# Altium footprint library ICs.PcbLib: 56 footprints (part 3 of 4)
Each footprint in its own frame and in the unit in brackets; x right, y up, seen from the top. Pads: shape width x height; smd on the part's side, far side on the other; paste and mask are expansions set on the pad; w line width, h text height; cw(c..) or ccw(c..) is an arc to the next point about the centre after c.
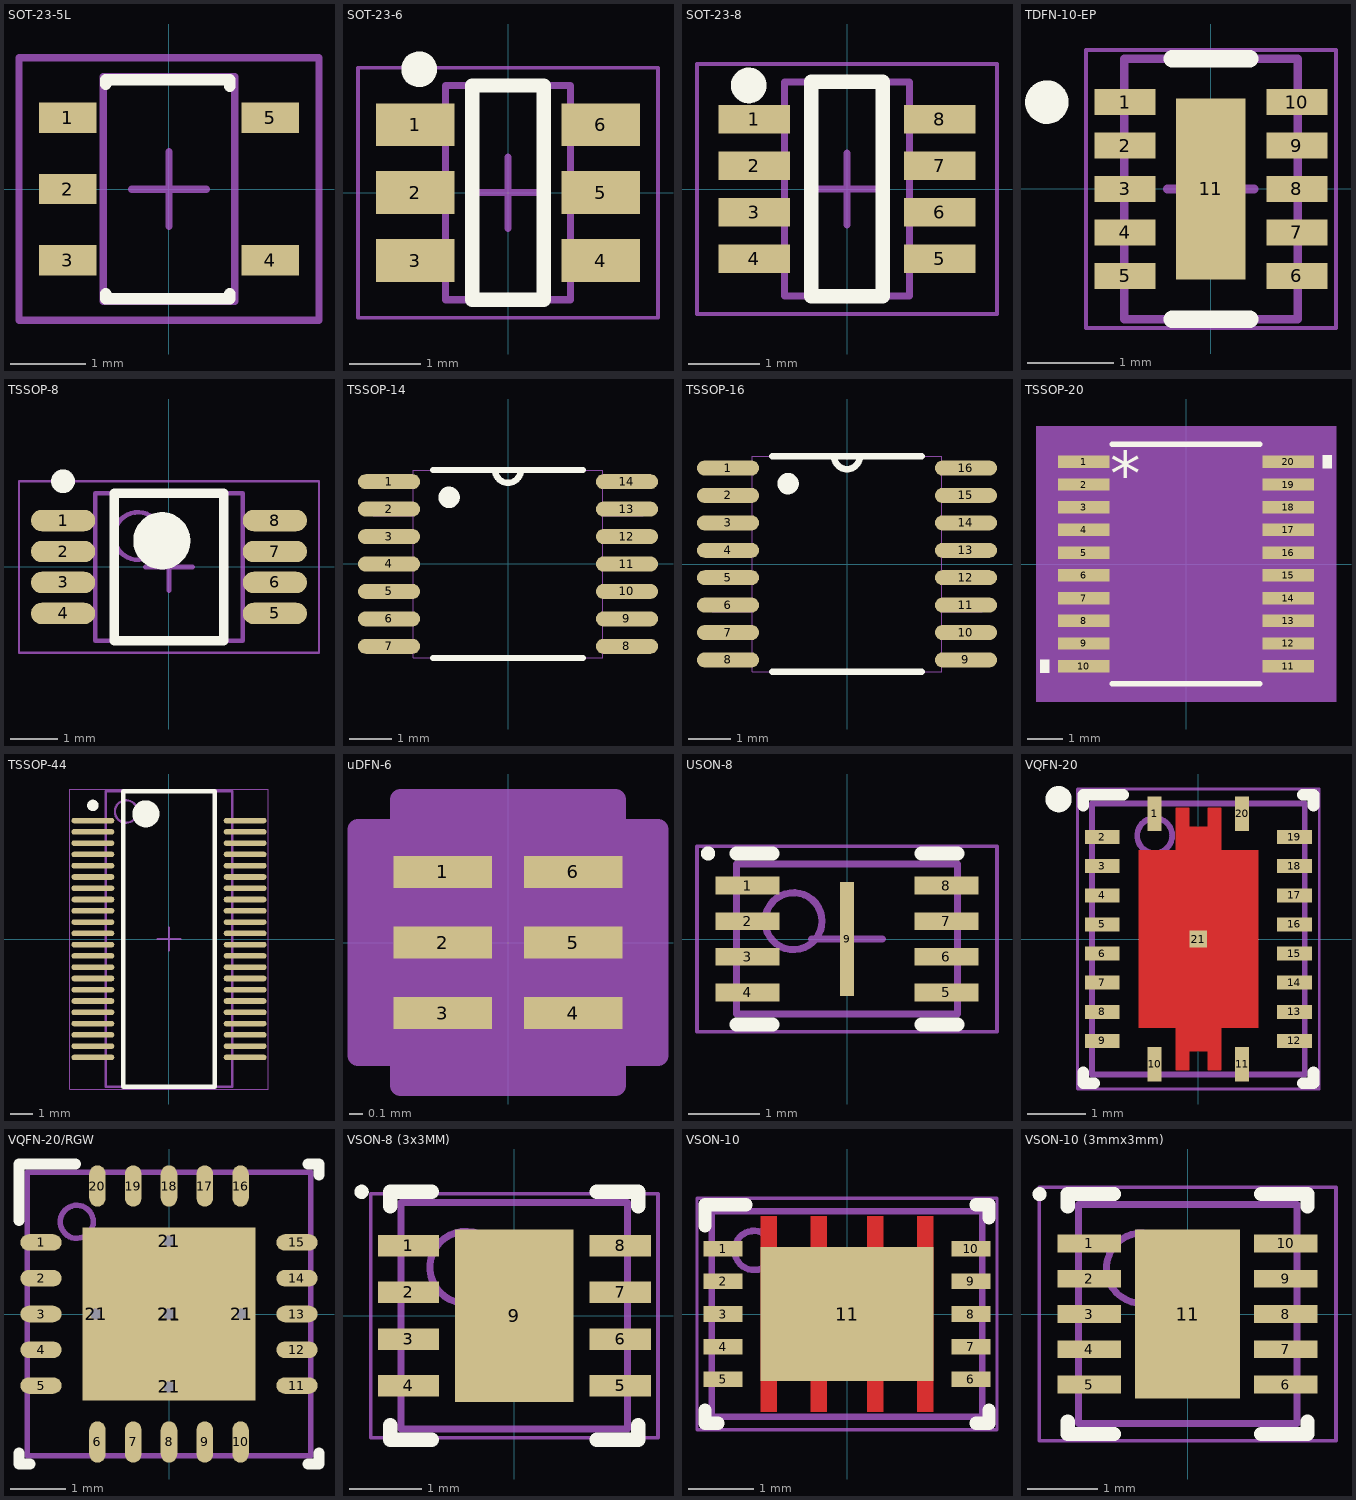
[diagram p2: the footprints below, top view; thin cyan lines are the x and y axes]

## SOT-23-5L [mil] "Enhanced single channel power switches"
height 57.09
pads (5):
  rect 30x16 smd: 1(-53.15,37.4) 2(-53.15,0) 3(-53.15,-37.4) 4(53.15,-37.4) 5(53.15,37.4)
Top Overlay:
  lines w6: -33.15,-55 -33.15,-57.6 31.85,-57.6 31.85,-55 ; -33.15,55 -33.15,57.4 31.85,57.4 31.85,54
Mechanical 13:
  lines w3.94: -34.45,-59.06 34.45,-59.06 34.45,59.06 -34.45,59.06 -34.45,-59.06
Mechanical 15:
  lines w3.94: -19.68,0 19.69,0 ; 0,-19.68 0,19.69 ; -78.74,-68.9 78.74,-68.9 78.74,68.9 -78.74,68.9 -78.74,-68.9
3D body: height 57.09, standoff 1.97, extent -34.45,-59.06 34.45,59.06

## SOT-23-6 [mm] "SOT23, 6-Leads, Body 2.90x1.60mm, Pitch 0.95mm, IPC Medium Density"
height 1.45
pads (6):
  rect 1.1x0.6 smd mask+0.08: 1(-1.3,0.95) 2(-1.3,0) 3(-1.3,-0.95) 4(1.3,-0.95) 5(1.3,0) 6(1.3,0.95)
Top Overlay:
  circle w0.25: c-1.245,1.727 r0.125
  lines w0.2: -0.5,-1.5 -0.5,1.5 0.5,1.5 0.5,-1.5 -0.5,-1.5
Mechanical 13:
  lines w0.1: -0.875,-1.5 0.875,-1.5 0.875,1.5 -0.875,1.5 -0.875,-1.5
Mechanical 15:
  lines w0.05: -2.1,-1.75 2.1,-1.75 2.1,1.75 -2.1,1.75 -2.1,-1.75
  lines w0.1: -0.5,0 0.5,0 ; 0,-0.5 0,0.5
3D body "sot-23-6.stp": height 1.15, standoff 0.04, extent -1.423,-1.461 1.422,1.46

## SOT-23-8 [mm] "SOT23, 8-Leads, Body 2.90x1.60mm, Pitch 0.65mm, IPC Medium Density"
height 1.45
pads (8):
  rect 1x0.4 smd mask+0.08: 1(-1.3,0.975) 2(-1.3,0.325) 3(-1.3,-0.325) 4(-1.3,-0.975) 5(1.3,-0.975) 6(1.3,-0.325) 7(1.3,0.325) 8(1.3,0.975)
Top Overlay:
  circle w0.25: c-1.375,1.45 r0.125
  lines w0.2: -0.5,-1.5 -0.5,1.5 0.5,1.5 0.5,-1.5 -0.5,-1.5
Mechanical 13:
  lines w0.1: -0.875,-1.5 0.875,-1.5 0.875,1.5 -0.875,1.5 -0.875,-1.5
Mechanical 15:
  lines w0.05: -2.1,-1.75 2.1,-1.75 2.1,1.75 -2.1,1.75 -2.1,-1.75
  lines w0.1: -0.5,0 0.5,0 ; 0,-0.5 0,0.5
3D body "User Library-sot238.step": height 1.2, standoff 0, extent -1.4,-1.47 1.4,1.47

## TDFN-10-EP [mm] "TDFN, 10-Leads, Body 2x3mm, Pitch 0.50mm, Thermal Pad 0.8x2.08mm"
height 0.8
pads (11):
  rect 0.7x0.3 smd: 1(-0.99,1) 2(-0.99,0.5) 3(-0.99,0) 4(-0.99,-0.5) 5(-0.99,-1) 6(0.99,-1) 7(0.99,-0.5) 8(0.99,0) 9(0.99,0.5) 10(0.99,1)
  rect 0.8x2.08 smd: 11(0,0)
Top Overlay:
  circle w0.25: c-1.89,1 r0.125
  lines w0.2: -0.447,-1.5 0.447,-1.5 ; -0.447,1.5 0.447,1.5
Mechanical 13:
  lines w0.1: -1,-1.5 1,-1.5 1,1.5 -1,1.5 -1,-1.5
Mechanical 15:
  lines w0.05: -1.44,-1.6 1.44,-1.6 1.44,1.6 -1.44,1.6 -1.44,-1.6
  lines w0.1: -0.5,0 0.5,0 ; 0,-0.5 0,0.5
3D body "User Library-DFN10.step": height 0.75, standoff -0.05, extent -1.02,-1.5 1,1.5

## TSSOP-8 [mm] "TSOP, 8-Leads, Body 3.00x3.00mm, Pitch 0.65mm, IPC Medium Density"
height 1.1
pads (8):
  oval 1.35x0.45 smd: 1(-2.225,0.975) 2(-2.225,0.325) 3(-2.225,-0.325) 4(-2.225,-0.975) 5(2.225,-0.975) 6(2.225,-0.325) 7(2.225,0.325) 8(2.225,0.975)
Top Overlay:
  circle w0.6: c-0.15,0.55 r0.3
  circle w0.25: c-2.225,1.8 r0.125
  lines w0.2: -1.15,-1.55 1.15,-1.55 1.15,1.55 -1.15,1.55 -1.15,-1.55
Mechanical 13:
  circle w0.1: c-0.65,0.65 r0.5
  lines w0.1: -1.55,-1.55 1.55,-1.55 1.55,1.55 -1.55,1.55 -1.55,-1.55
Mechanical 15:
  lines w0.05: -3.15,-1.8 3.15,-1.8 3.15,1.8 -3.15,1.8 -3.15,-1.8
  lines w0.1: -0.5,0 0.5,0 ; 0,-0.5 0,0.5
3D body "TSOP65P490X110-8N.step": height 1.1, standoff 0, extent -2.45,-1.55 2.45,1.55

## TSSOP-14 [mil]
pads (14):
  oval 58x14 smd: 1(-111,76.77) 2(-111,51.18) 3(-111,25.59) 4(-111,0) 5(-111,-25.59) 6(-111,-51.18) 7(-111,-76.77) 8(111,-76.77) 9(111,-51.18) 10(111,-25.59) 11(111,0) 12(111,25.59) 13(111,51.18) 14(111,76.77)
Top Overlay:
  circle w10: c-55,62.2 r5
  lines w6: -69.61,-87.72 69.61,-87.72 ; -69.61,87.7 69.61,87.7 ; -12,87.7 ccw(c0,87.7) 12,87.7
Mechanical 1:
  lines w0: -12,87.7 ccw(c0,87.7) 12,87.7 ; -126,-82.77 -88.5,-82.77 -88.5,-70.77 -126,-70.77 -126,-82.77 ; -126,-57.18 -88.5,-57.18 -88.5,-45.18 -126,-45.18 -126,-57.18 ; -126,-31.59 -88.5,-31.59 -88.5,-19.59 -126,-19.59 -126,-31.59 ; -126,-6 -88.5,-6 -88.5,6 -126,6 -126,-6 ; -126,19.59 -88.5,19.59 -88.5,31.59 -126,31.59 -126,19.59 ; -126,45.18 -88.5,45.18 -88.5,57.18 -126,57.18 -126,45.18 ; -126,70.77 -88.5,70.77 -88.5,82.77 -126,82.77 -126,70.77 ; -88.5,-87.72 -88.5,87.7 88.5,87.7 88.5,-87.72 -88.5,-87.72 ; 88.5,-82.77 126,-82.77 126,-70.77 88.5,-70.77 88.5,-82.77 ; 88.5,-57.18 126,-57.18 126,-45.18 88.5,-45.18 88.5,-57.18 ; 88.5,-31.59 126,-31.59 126,-19.59 88.5,-19.59 88.5,-31.59 ; 88.5,-6 126,-6 126,6 88.5,6 88.5,-6 ; 88.5,19.59 126,19.59 126,31.59 88.5,31.59 88.5,19.59 ; 88.5,45.18 126,45.18 126,57.18 88.5,57.18 88.5,45.18 ; 88.5,70.77 126,70.77 126,82.77 88.5,82.77 88.5,70.77
3D body "User Library-tssop14-2.step": height 47.24, standoff 0, extent -125.98,-100.39 125.98,100.4

## TSSOP-16 [mil]
pads (16):
  oval 58x14 smd: 1(-111,89.57) 2(-111,63.98) 3(-111,38.39) 4(-111,12.8) 5(-111,-12.8) 6(-111,-38.39) 7(-111,-63.98) 8(-111,-89.57) 9(111,-89.57) 10(111,-63.98) 11(111,-38.39) 12(111,-12.8) 13(111,12.8) 14(111,38.39) 15(111,63.98) 16(111,89.57)
Top Overlay:
  circle w10: c-55,75 r5
  lines w6: -69.61,-100.5 69.61,-100.5 ; -69.61,100.5 69.61,100.5 ; -12,100.5 ccw(c0,100.5) 12,100.5
Mechanical 1:
  lines w0: -12,100.5 ccw(c0,100.5) 12,100.5 ; -126,-95.57 -88.5,-95.57 -88.5,-83.57 -126,-83.57 -126,-95.57 ; -126,-69.98 -88.5,-69.98 -88.5,-57.98 -126,-57.98 -126,-69.98 ; -126,-44.39 -88.5,-44.39 -88.5,-32.39 -126,-32.39 -126,-44.39 ; -126,-18.8 -88.5,-18.8 -88.5,-6.8 -126,-6.8 -126,-18.8 ; -126,6.8 -88.5,6.8 -88.5,18.8 -126,18.8 -126,6.8 ; -126,32.39 -88.5,32.39 -88.5,44.39 -126,44.39 -126,32.39 ; -126,57.98 -88.5,57.98 -88.5,69.98 -126,69.98 -126,57.98 ; -126,83.57 -88.5,83.57 -88.5,95.57 -126,95.57 -126,83.57 ; -88.5,-100.5 -88.5,100.5 88.5,100.5 88.5,-100.5 -88.5,-100.5 ; 88.5,-95.57 126,-95.57 126,-83.57 88.5,-83.57 88.5,-95.57 ; 88.5,-69.98 126,-69.98 126,-57.98 88.5,-57.98 88.5,-69.98 ; 88.5,-44.39 126,-44.39 126,-32.39 88.5,-32.39 88.5,-44.39 ; 88.5,-18.8 126,-18.8 126,-6.8 88.5,-6.8 88.5,-18.8 ; 88.5,6.8 126,6.8 126,18.8 88.5,18.8 88.5,6.8 ; 88.5,32.39 126,32.39 126,44.39 88.5,44.39 88.5,32.39 ; 88.5,57.98 126,57.98 126,69.98 88.5,69.98 88.5,57.98 ; 88.5,83.57 126,83.57 126,95.57 88.5,95.57 88.5,83.57
3D body "tssop_16.step": height 47.62, standoff -0.38, extent -126.42,-98.56 125.63,98.29

## TSSOP-20 [mil]
pads (20):
  rect 58x14 smd: 1(-115,115.16) 2(-115,89.57) 3(-115,63.98) 4(-115,38.39) 5(-115,12.8) 6(-115,-12.8) 7(-115,-38.39) 8(-115,-63.98) 9(-115,-89.57) 10(-115,-115.16) 11(115,-115.16) 12(115,-89.57) 13(115,-63.98) 14(115,-38.39) 15(115,-12.8) 16(115,12.8) 17(115,38.39) 18(115,63.98) 19(115,89.57) 20(115,115.16)
Top Overlay:
  region: 154,122.66 164,122.66 164,107.66 154,107.66
  region: -154,-107.66 -164,-107.66 -164,-122.66 -154,-122.66
  lines w6: -83.42,-135 83.42,-135 ; -83.42,135 83.42,135
  text "*" at -85.5,77 h50
Mechanical 5:
  region: 169,-155 -169,-155 -169,155 169,155
Mechanical 13:
  lines w0: -12,130 ccw(c0,130) 12,130
  lines w1: -130,-121.16 -88,-121.16 -88,-109.16 -130,-109.16 -130,-121.16 ; -130,-95.57 -88,-95.57 -88,-83.57 -130,-83.57 -130,-95.57 ; -130,-69.98 -88,-69.98 -88,-57.98 -130,-57.98 -130,-69.98 ; -130,-44.39 -88,-44.39 -88,-32.39 -130,-32.39 -130,-44.39 ; -130,-18.8 -88,-18.8 -88,-6.8 -130,-6.8 -130,-18.8 ; -130,6.8 -88,6.8 -88,18.8 -130,18.8 -130,6.8 ; -130,32.39 -88,32.39 -88,44.39 -130,44.39 -130,32.39 ; -130,57.98 -88,57.98 -88,69.98 -130,69.98 -130,57.98 ; -130,83.57 -88,83.57 -88,95.57 -130,95.57 -130,83.57 ; -130,109.16 -88,109.16 -88,121.16 -130,121.16 -130,109.16 ; -88,-130 -88,130 88,130 88,-130 -88,-130 ; 88,-121.16 130,-121.16 130,-109.16 88,-109.16 88,-121.16 ; 88,-95.57 130,-95.57 130,-83.57 88,-83.57 88,-95.57 ; 88,-69.98 130,-69.98 130,-57.98 88,-57.98 88,-69.98 ; 88,-44.39 130,-44.39 130,-32.39 88,-32.39 88,-44.39 ; 88,-18.8 130,-18.8 130,-6.8 88,-6.8 88,-18.8 ; 88,6.8 130,6.8 130,18.8 88,18.8 88,6.8 ; 88,32.39 130,32.39 130,44.39 88,44.39 88,32.39 ; 88,57.98 130,57.98 130,69.98 88,69.98 88,57.98 ; 88,83.57 130,83.57 130,95.57 88,95.57 88,83.57 ; 88,109.16 130,109.16 130,121.16 88,121.16 88,109.16
  text "*" at -137.5,124.16 h50
Mechanical 15:
  region: -98,-129.95 -154,-129.95 -154,129.95 -98,129.95 -98,140 98,140 98,129.95 154,129.95 154,-129.95 98,-129.95 98,-140 -98,-140
  lines w6: -154,-129.95 -98,-129.95 -98,-140 98,-140 98,-129.95 154,-129.95 154,129.95 98,129.95 98,140 -98,140 -98,129.95 -154,129.95 -154,-129.95
3D body: height 10, standoff 0, extent 0,0 10,10
3D body "TSSOP20.step": height 47.09, standoff 0, extent -130,-130 130,130

## TSSOP-44 [mm] "SOP, 44-Leads, Body 13.1x5.6mm, Pitch 0.5mm, IPC High Density"
height 2
pads (44):
  oval 1.9x0.25 smd: 1(-3.375,5.25) 2(-3.375,4.75) 3(-3.375,4.25) 4(-3.375,3.75) 5(-3.375,3.25) 6(-3.375,2.75) 7(-3.375,2.25) 8(-3.375,1.75) 9(-3.375,1.25) 10(-3.375,0.75) 11(-3.375,0.25) 12(-3.375,-0.25) 13(-3.375,-0.75) 14(-3.375,-1.25) 15(-3.375,-1.75) 16(-3.375,-2.25) 17(-3.375,-2.75) 18(-3.375,-3.25) 19(-3.375,-3.75) 20(-3.375,-4.25) 21(-3.375,-4.75) 22(-3.375,-5.25) 23(3.375,-5.25) 24(3.375,-4.75) 25(3.375,-4.25) 26(3.375,-3.75) 27(3.375,-3.25) 28(3.375,-2.75) 29(3.375,-2.25) 30(3.375,-1.75) 31(3.375,-1.25) 32(3.375,-0.75) 33(3.375,-0.25) 34(3.375,0.25) 35(3.375,0.75) 36(3.375,1.25) 37(3.375,1.75) 38(3.375,2.25) 39(3.375,2.75) 40(3.375,3.25) 41(3.375,3.75) 42(3.375,4.25) 43(3.375,4.75) 44(3.375,5.25)
Top Overlay:
  circle w0.6: c-1.025,5.55 r0.3
  circle w0.25: c-3.375,5.925 r0.125
  lines w0.2: -2.025,-6.55 2.025,-6.55 2.025,6.55 -2.025,6.55 -2.025,-6.55
Mechanical 13:
  circle w0.1: c-1.9,5.65 r0.5
  lines w0.1: -2.8,-6.55 2.8,-6.55 2.8,6.55 -2.8,6.55 -2.8,-6.55
Mechanical 15:
  lines w0.05: -4.4,-6.65 4.4,-6.65 4.4,6.65 -4.4,6.65 -4.4,-6.65
  lines w0.1: -0.5,0 0.5,0 ; 0,-0.5 0,0.5
3D body "SSOP50P780X200-44N.step": height 2, standoff 0, extent -3.9,-6.55 3.9,6.55

## uDFN-6 [mil]
pads (6):
  rect 28x9 smd: 1(-18.5,20) 2(-18.5,0) 3(-18.5,-20) 4(18.5,-20) 5(18.5,0) 6(18.5,20)
Mechanical 13:
  lines w0: -12,30.5 ccw(c0,30.5) 12,30.5
  lines w1: -20.5,-30.5 20.5,-30.5 20.5,30.5 -20.5,30.5 -20.5,-30.5
Mechanical 15:
  region: -30.5,-32 -42.5,-32 -42.5,32 -30.5,32 -30.5,40.5 30.5,40.5 30.5,32 42.5,32 42.5,-32 30.5,-32 30.5,-40.5 -30.5,-40.5
  lines w6: -42.5,-32 -42.5,32 -30.5,32 -30.5,40.5 30.5,40.5 30.5,32 42.5,32 42.5,-32 30.5,-32 30.5,-40.5 -30.5,-40.5 -30.5,-32 -42.5,-32
3D body "21-0147E.step": height 32.09, standoff 0, extent -20.51,-30.51 20.51,30.51

## USON-8 [mm] "SON, 8-Leads, Body 2.00x3.00mm, Pitch 0.50mm, Thermal Pad 1.60x0.20mm, IPC Medium Density"
height 0.6
pads (9):
  rect 0.9x0.25 smd: 1(-1.395,0.75) 2(-1.395,0.25) 3(-1.395,-0.25) 4(-1.395,-0.75) 5(1.395,-0.75) 6(1.395,-0.25) 7(1.395,0.25) 8(1.395,0.75)
  rect 0.2x1.6 smd: 9(0,0)
Top Overlay:
  circle w0.1: c-1.95,1.2 r0.05
  lines w0.2: -1.55,-1.2 -1.045,-1.2 ; -1.55,1.2 -1.045,1.2 ; 1.045,-1.2 1.55,-1.2 ; 1.045,1.2 1.55,1.2
Mechanical 13:
  circle w0.1: c-0.75,0.25 r0.4
  lines w0.1: -1.55,-1.05 -1.55,1.05 1.55,1.05 1.55,-1.05 -1.55,-1.05
Mechanical 15:
  lines w0.05: -2.105,-1.3 -2.105,1.3 2.105,1.3 2.105,-1.3 -2.105,-1.3
  lines w0.1: -0.5,0 0.5,0 ; 0,-0.5 0,0.5
3D body "SON50P300X60_HS-9N.step": height 0.6, standoff 0, extent -1.585,-1.05 1.585,1.05

## VQFN-20 [mm] "QFN, 20-Leads, Body 4.5x3.5mm, Pitch 0.5mm, Thermal Pad 3.05x2.05mm, TI Recommended"
height 1
pads (21):
  rect 0.24x0.6 smd: 1(-0.75,2.15) 10(-0.75,-2.15) 11(0.75,-2.15) 20(0.75,2.15)
  rect 0.6x0.24 smd: 2(-1.65,1.75) 3(-1.65,1.25) 4(-1.65,0.75) 5(-1.65,0.25) 6(-1.65,-0.25) 7(-1.65,-0.75) 8(-1.65,-1.25) 9(-1.65,-1.75) 12(1.65,-1.75) 13(1.65,-1.25) 14(1.65,-0.75) 15(1.65,-0.25) 16(1.65,0.25) 17(1.65,0.75) 18(1.65,1.25) 19(1.65,1.75)
  rect 0.3x0.3 smd paste-0.15 mask+0: 21(0,0)
Top Layer:
  region: 0.16,2.25 0.16,1.925 -0.16,1.925 -0.16,2.25 -0.39,2.25 -0.39,1.525 -1.025,1.525 -1.025,-1.525 -0.39,-1.525 -0.39,-2.25 -0.16,-2.25 -0.16,-1.925 0.16,-1.925 0.16,-2.25 0.39,-2.25 0.39,-1.525 1.025,-1.525 1.025,1.525 0.39,1.525 0.39,2.25
Top Overlay:
  circle w0.25: c-2.4,2.4 r0.1
  lines w0.2: -1.975,-2.29 -1.975,-2.475 -1.79,-2.475 ; -1.975,2.29 -1.975,2.475 -1.29,2.475 ; 1.79,-2.475 1.975,-2.475 1.975,-2.29 ; 1.79,2.475 1.975,2.475 1.975,2.29
Top Paste:
  rectangle: -0.39,-1.925 0.39,-1.628
  rectangle: -0.39,1.628 0.39,1.925
  rectangle: 0.1,0.1 1.017,1.428
  region: -0.1,1.428 -1.017,1.428 -1.017,0.1 -0.1,0.1
  region: -0.1,-0.1 -1.017,-0.1 -1.017,-1.428 -0.1,-1.428
  rectangle: 0.1,-1.428 1.017,-0.1
Mechanical 13:
  circle w0.1: c-0.75,1.775 r0.3
  lines w0.1: -1.825,-2.325 -1.825,2.325 1.825,2.325 1.825,-2.325 -1.825,-2.325
Mechanical 15:
  lines w0.05: -2.075,-2.575 2.075,-2.575 2.075,2.575 -2.075,2.575 -2.075,-2.575
  lines w0.1: -0.5,0 0.5,0 ; 0,-0.5 0,0.5
3D body: height 1, standoff 0, extent -1.825,-2.325 1.825,2.325
3D body: height 1.01, standoff 0.5, extent -1.049,1.476 -0.451,2.074

## VQFN-20/RGW [mm]
pads (26):
  oval 0.75x0.3 smd paste+0 mask+0.051: 1(-2.325,1.3) 2(-2.325,0.65) 3(-2.325,0) 4(-2.325,-0.65) 5(-2.325,-1.3) 11(2.325,-1.3) 12(2.325,-0.65) 13(2.325,0) 14(2.325,0.65) 15(2.325,1.3)
  oval 0.3x0.75 smd paste+0 mask+0.051: 6(-1.3,-2.325) 7(-0.65,-2.325) 8(0,-2.325) 9(0.65,-2.325) 10(1.3,-2.325) 16(1.3,2.325) 17(0.65,2.325) 18(0,2.325) 19(-0.65,2.325) 20(-1.3,2.325)
  round 0.5 / inner round 1.524 / far side round 0.5 hole 0.203 mask+0.051: 21(-1.325,0) 21(0,-1.325) 21(0,0) 21(0,1.325) 21(1.325,0)
  rect 3.15x3.15 smd paste-1.562 mask+0.051: 21(0,0)
Top Overlay:
  lines w0.2: -2.725,-2.525 -2.725,-2.725 -2.525,-2.725 ; -2.725,1.7 -2.725,2.725 -1.7,2.725 ; 2.525,-2.725 2.725,-2.725 2.725,-2.525 ; 2.525,2.725 2.725,2.725 2.725,2.525
Top Paste:
  region: 0.1,-0.1 0.1,-1.468 1.468,-1.468 1.468,-0.1
  region: -0.1,-1.468 -0.1,-0.1 -1.468,-0.1 -1.468,-1.468
  region: -0.1,0.1 -0.1,1.468 -1.468,1.468 -1.468,0.1
  region: 0.1,1.468 0.1,0.1 1.468,0.1 1.468,1.468
Mechanical 13:
  circle w0.1: c-1.675,1.675 r0.3
  lines w0.1: -2.575,-2.575 2.575,-2.575 2.575,2.575 -2.575,2.575 -2.575,-2.575
  text ".Designator" at -2.667,2.921 h0.51
3D body "RGW0020A.stp": height 1, standoff 0, extent -2.5,-2.5 2.5,2.5

## VSON-8 (3x3MM) [mm] "SON, 8-Leads, Body 3x3mm, Pitch 0.65mm, Thermal Pad 2.4x1.65mm, TI Recommended"
height 1
pads (9):
  rect 0.85x0.3 smd paste-0.025 mask+0.07: 1(-1.475,0.975) 2(-1.475,0.325) 3(-1.475,-0.325) 4(-1.475,-0.975) 5(1.475,-0.975) 6(1.475,-0.325) 7(1.475,0.325) 8(1.475,0.975)
  rect 1.65x2.4 smd paste-0.825 mask+0.07: 9(0,0)
Top Overlay:
  circle w0.1: c-2.125,1.725 r0.05
  lines w0.2: -1.725,-1.525 -1.725,-1.725 -1.15,-1.725 ; -1.725,1.525 -1.725,1.725 -1.15,1.725 ; 1.15,-1.725 1.725,-1.725 1.725,-1.525 ; 1.15,1.725 1.725,1.725 1.725,1.525
Top Paste:
  rectangle: -0.775,-1.125 -0.125,-0.125
  region: 0.775,-0.125 0.125,-0.125 0.125,-1.125 0.775,-1.125
  region: 0.775,1.125 0.125,1.125 0.125,0.125 0.775,0.125
  rectangle: -0.775,0.125 -0.125,1.125
Mechanical 13:
  circle w0.1: c-0.675,0.675 r0.5
  lines w0.1: -1.575,-1.575 1.575,-1.575 1.575,1.575 -1.575,1.575 -1.575,-1.575
Mechanical 15:
  lines w0.05: -2,-1.7 2,-1.7 2,1.7 -2,1.7 -2,-1.7
  lines w0.1: -0.5,0 0.5,0 ; 0,-0.5 0,0.5
3D body: height 1, standoff 0, extent -1.575,-1.575 1.575,1.575

## VSON-10 [mm] "SON, 10-Leads, Body 4x3mm, Pitch 0.5mm, Thermal Pad 3.8x2.65mm"
height 1
pads (11):
  rect 0.6x0.24 smd: 1(-1.9,1) 2(-1.9,0.5) 3(-1.9,0) 4(-1.9,-0.5) 5(-1.9,-1) 6(1.9,-1) 7(1.9,-0.5) 8(1.9,0) 9(1.9,0.5) 10(1.9,1)
  rect 2.65x2.05 smd paste-1.1: 11(0,0)
Top Layer:
  rectangle: 0.31,-1.5 0.56,1.5
  rectangle: 1.075,-1.5 1.325,1.5
  region: -1.075,1.5 -1.325,1.5 -1.325,-1.5 -1.075,-1.5
  region: -0.31,1.5 -0.56,1.5 -0.56,-1.5 -0.31,-1.5
Top Overlay:
  lines w0.2: -2.175,-1.475 -2.175,-1.675 -1.975,-1.675 ; -2.175,1.35 -2.175,1.675 -1.55,1.675 ; 1.975,-1.675 2.175,-1.675 2.175,-1.475 ; 1.975,1.675 2.175,1.675 2.175,1.475
Top Paste:
  region: -0.1,0.911 -1.266,0.911 -1.266,-0.911 -0.1,-0.911
  rectangle: 0.1,-0.911 1.266,0.911
Mechanical 13:
  circle w0.1: c-1.425,0.975 r0.3
  lines w0.1: -2.075,-1.575 -2.075,1.575 2.075,1.575 2.075,-1.575 -2.075,-1.575
Mechanical 15:
  lines w0.05: -2.3,-1.775 -2.3,1.775 2.3,1.775 2.3,-1.775 -2.3,-1.775
  lines w0.1: -0.5,0 0.5,0 ; 0,-0.5 0,0.5
3D body: height 1, standoff 0, extent -2.074,-1.574 2.074,1.574
3D body: height 1.01, standoff 0.9, extent -1.724,0.676 -1.126,1.274

## VSON-10 (3mmx3mm) [mm] "VSON, 10-Leads, Body 3.00x3.00mm, Pitch 0.50mm, Thermal Pad 2.40x1.49mm, IPC Medium Density"
height 1
pads (11):
  rect 0.9x0.25 smd: 1(-1.395,1) 2(-1.395,0.5) 3(-1.395,0) 4(-1.395,-0.5) 5(-1.395,-1) 6(1.395,-1) 7(1.395,-0.5) 8(1.395,0) 9(1.395,0.5) 10(1.395,1)
  rect 1.49x2.4 smd: 11(0,0)
Top Overlay:
  circle w0.1: c-2.1,1.7 r0.05
  lines w0.2: -1.7,-1.525 -1.7,-1.7 -1.045,-1.7 ; -1.7,1.525 -1.7,1.7 -1.045,1.7 ; 1.045,-1.7 1.7,-1.7 1.7,-1.525 ; 1.045,1.7 1.7,1.7 1.7,1.525
Mechanical 13:
  circle w0.1: c-0.65,0.65 r0.5
  lines w0.1: -1.55,-1.55 -1.55,1.55 1.55,1.55 1.55,-1.55 -1.55,-1.55
Mechanical 15:
  lines w0.05: -2.105,-1.8 -2.105,1.8 2.105,1.8 2.105,-1.8 -2.105,-1.8
  lines w0.1: -0.5,0 0.5,0 ; 0,-0.5 0,0.5
3D body: height 1, standoff 0.05, extent -1.55,-1.55 1.55,1.55